# EAGLE library part ISL5521* (library NewSDR)
Intersil Wideband, Low-Power, Ultra High Dynamic Range Differential Amplifier
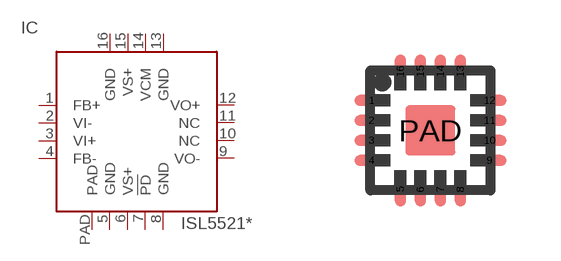
[diagram p174: symbol with the pads of QFN16; footprint QFN16]

Designator prefix IC

## ISL55210, ISL55211  [QFN16]
1  FB+  pas
2  VI-  pas
3  VI+  pas
4  FB-  pas
5  GND  pwr
6  VS+  pwr
7  !PD  in
8  GND  pwr
9  VO-  pas
10  NC  nc
11  NC  nc
12  VO+  pas
13  GND  pwr
14  VCM  pas
15  VS+  pwr
16  GND  pwr
PAD  PAD  pwr

## Footprint QFN16 (pad centres in mm)
QFN-16 Quad Flat No Leads
smd 0.85 x 0.28: 1 -1.475,0.75; 2 -1.475,0.25; 3 -1.475,-0.25; 4 -1.475,-0.75; 9 1.475,-0.75; 10 1.475,-0.25; 11 1.475,0.25; 12 1.475,0.75
smd 0.28 x 0.85: 5 -0.75,-1.475; 6 -0.25,-1.475; 7 0.25,-1.475; 8 0.75,-1.475; 13 0.75,1.475; 14 0.25,1.475; 15 -0.25,1.475; 16 -0.75,1.475
smd 1.245 x 1.245: PAD 0,0